# Altium schematic symbol library TAS5431QPWPRQ1.SchLib: 2 symbols
Pins are listed as number, name and electrical type; pins without a type are passive.

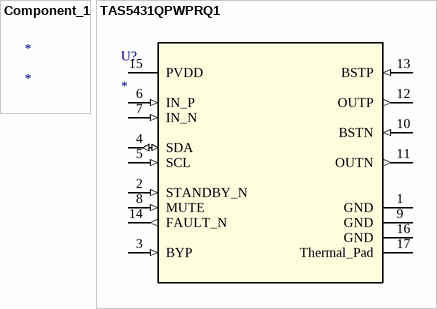
[diagram p0: symbols Component_1 to TAS5431QPWPRQ1]

## Component_1
designator *

## TAS5431QPWPRQ1
designator U?
No Description Available; Mfr_Name: Texas Instruments; TYPE: TYPE; RefDes: RefDes
footprint PWP0016B-IPC_A
pins: 1 GND (power), 2 STANDBY_N (in), 3 BYP (in), 4 SDA (io), 5 SCL (in), 6 IN_P (in), 7 IN_N (in), 8 MUTE (in), 9 GND (power), 10 BSTN (in), 11 OUTN (out), 12 OUTP (out), 13 BSTP (in), 14 FAULT_N (out), 15 PVDD (power), 16 GND (power), 17 Thermal_Pad (power)